# EAGLE library part LEON-G100/G200 (library u-blox)
LEON-G100/G200 Quad Band GSM/GPRS Voice and Data Modules Source: http://www.u-blox.com
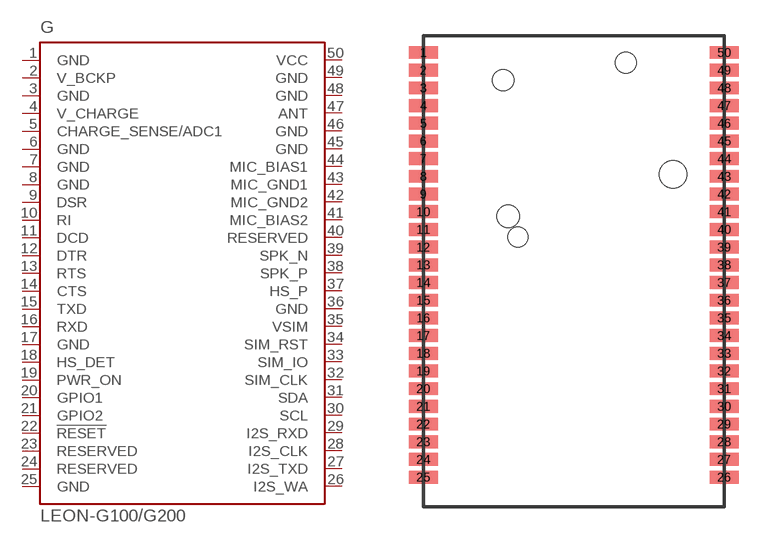
[diagram p0: symbol with the pads of LEON-G100/G200; footprint LEON-G100/G200]

Designator prefix G

## LEON-G100/G200  [LEON-G100/G200]
1  GND  pwr
2  V_BCKP  in
3  GND  pwr
4  V_CHARGE  in
5  CHARGE_SENSE/ADC1  in
6  GND  pwr
7  GND  pwr
8  GND  pwr
9  DSR  in
10  RI  in
11  DCD  in
12  DTR  in
13  RTS  out
14  CTS  in
15  TXD  out
16  RXD  in
17  GND  pwr
18  HS_DET  in
19  PWR_ON  in
20  GPIO1  in
21  GPIO2  in
22  !RESET  in
23  RESERVED  pas
24  RESERVED  pas
25  GND  pwr
26  I2S_WA  out
27  I2S_TXD  out
28  I2S_CLK  out
29  I2S_RXD  out
30  SCL  in
31  SDA  in
32  SIM_CLK  in
33  SIM_IO  in
34  SIM_RST  in
35  VSIM  in
36  GND  pwr
37  HS_P  out
38  SPK_P  out
39  SPK_N  out
40  RESERVED  pas
41  MIC_BIAS2  in
42  MIC_GND2  pas
43  MIC_GND1  pas
44  MIC_BIAS1  in
45  GND  pwr
46  GND  pwr
47  ANT
48  GND  pwr
49  GND  pwr
50  VCC  pwr

## Footprint LEON-G100/G200 (pad centres in mm)
LEON-G100/G200 Quad Band GSM/GPRS Voice and Data Modules Source: http://www.u-blox.com
smd 1.8 x 0.8: 1 -9.35,13.6; 2 -9.35,12.5; 3 -9.35,11.4; 4 -9.35,10.3; 5 -9.35,9.2; 6 -9.35,8.1; 7 -9.35,7; 8 -9.35,5.9; 9 -9.35,4.8; 10 -9.35,3.7; 11 -9.35,2.6; 12 -9.35,1.5; 13 -9.35,0.4; 14 -9.35,-0.7; 15 -9.35,-1.8; 16 -9.35,-2.9; 17 -9.35,-4; 18 -9.35,-5.1; 19 -9.35,-6.2; 20 -9.35,-7.3; 21 -9.35,-8.4; 22 -9.35,-9.5; 23 -9.35,-10.6; 24 -9.35,-11.7; 25 -9.35,-12.8; 26 9.35,-12.8; 27 9.35,-11.7; 28 9.35,-10.6; 29 9.35,-9.5; 30 9.35,-8.4; 31 9.35,-7.3; 32 9.35,-6.2; 33 9.35,-5.1; 34 9.35,-4; 35 9.35,-2.9; 36 9.35,-1.8; 37 9.35,-0.7; 38 9.35,0.4; 39 9.35,1.5; 40 9.35,2.6; 41 9.35,3.7; 42 9.35,4.8; 43 9.35,5.9; 44 9.35,7; 45 9.35,8.1; 46 9.35,9.2; 47 9.35,10.3; 48 9.35,11.4; 49 9.35,12.5; 50 9.35,13.6
hole 1.31 at -4.39,11.88
hole 1.29 at 3.23,12.96
hole 1.7 at 6.16,6.02
hole 1.4 at -4.07,3.42
hole 1.24 at -3.47,2.12